# Altium footprint library SnapEDApcb.PcbLib: 1 footprints
Each footprint in its own frame and in the unit in brackets; x right, y up, seen from the top. Pads: shape width x height; smd on the part's side, far side on the other; paste and mask are expansions set on the pad; w line width, h text height; cw(c..) or ccw(c..) is an arc to the next point about the centre after c.
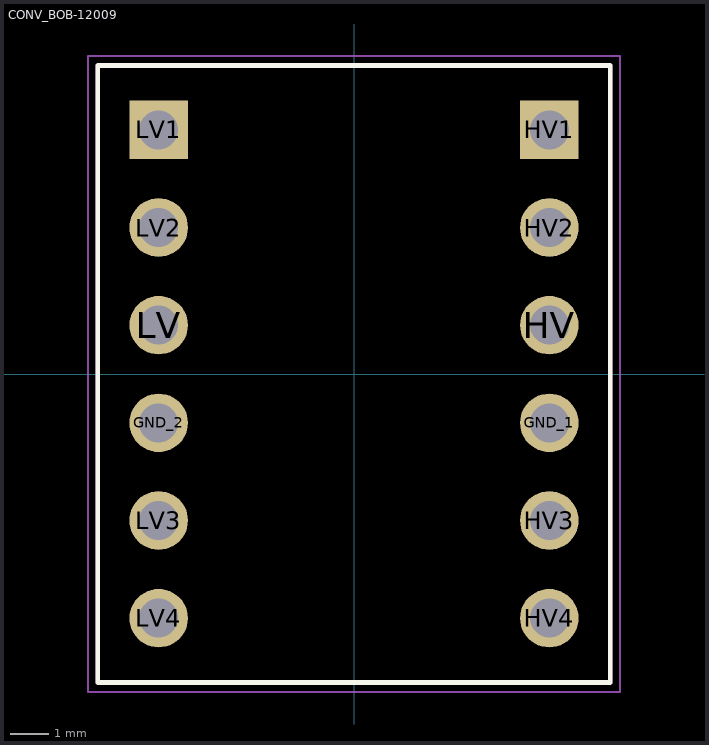
[diagram p0: the footprint, top view; thin cyan lines are the x and y axes]

## CONV_BOB-12009 [mil]
pads (12):
  round 60 hole 40: GND_1(200,-50) GND_2(-200,-50) HV(200,50) HV2(200,150) HV3(200,-150) HV4(200,-250) LV(-200,50) LV2(-200,150) LV3(-200,-150) LV4(-200,-250)
  rect 60x60 hole 40: HV1(200,250) LV1(-200,250)
Top Overlay:
  lines w5: -262.4,-315.94 262.4,-315.94 262.4,315.94 -262.4,315.94 -262.4,-315.94
Mechanical 13:
  lines w5: -262.4,-315.94 262.4,-315.94 262.4,315.94 -262.4,315.94 -262.4,-315.94
Mechanical 15:
  lines w1.97: -272.24,-325.79 -272.24,325.79 272.24,325.79 272.24,-325.79 -272.24,-325.79